# Altium schematic symbol library Bus_M.2_Socket_M.SchLib: 1 symbol
Pins are listed as number, name and electrical type; pins without a type are passive.

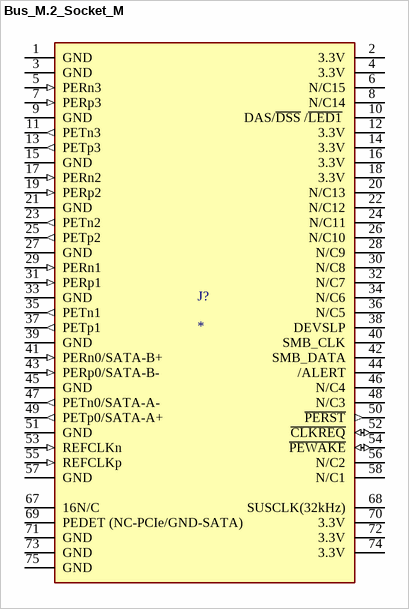
[diagram p0: symbol Bus_M.2_Socket_M]

## Bus_M.2_Socket_M
designator J?
MF: Amphenol Commercial; MP: MDT420M03001; Package: None; Price: None; Value: *; Availability: Unavailable
footprint AMPHENOL_MDT420M03001
pins: 1 GND, 2 3.3V (power), 3 GND, 4 3.3V (power), 5 PERn3 (in), 6 N/C15, 7 PERp3 (in), 8 N/C14, 9 GND, 10 DAS/~{DSS} /~{LED1} , 11 PETn3 (out), 12 3.3V (power), 13 PETp3 (out), 14 3.3V (power), 15 GND, 16 3.3V (power), 17 PERn2 (in), 18 3.3V (power), 19 PERp2 (in), 20 N/C13, 21 GND, 22 N/C12, 23 PETn2 (out), 24 N/C11, 25 PETp2 (out), 26 N/C10, 27 GND, 28 N/C9, 29 PERn1 (in), 30 N/C8, 31 PERp1 (in), 32 N/C7, 33 GND, 34 N/C6, 35 PETn1 (out), 36 N/C5, 37 PETp1 (out), 38 DEVSLP, 39 GND, 40 SMB_CLK, 41 PERn0/SATA-B+ (in), 42 SMB_DATA, 43 PERp0/SATA-B- (in), 44 /ALERT, 45 GND, 46 N/C4, 47 PETn0/SATA-A- (out), 48 N/C3, 49 PETp0/SATA-A+ (out), 50 ~{PERST} (out), 51 GND, 52 ~{CLKREQ} (io), 53 REFCLKn (in), 54 ~{PEWAKE} (io), 55 REFCLKp (in), 56 N/C2, 57 GND, 58 N/C1, 67 16N/C, 68 SUSCLK(32kHz), 69 PEDET (NC-PCIe/GND-SATA), 70 3.3V (power), 71 GND, 72 3.3V (power), 73 GND, 74 3.3V (power), 75 GND